# Altium footprint library PCB - CONNECTOR - AMPHENOL - AMPHENOL 031-6590.PcbLib: 1 footprints
Each footprint in its own frame and in the unit in brackets; x right, y up, seen from the top. Pads: shape width x height; smd on the part's side, far side on the other; paste and mask are expansions set on the pad; w line width, h text height; cw(c..) or ccw(c..) is an arc to the next point about the centre after c.
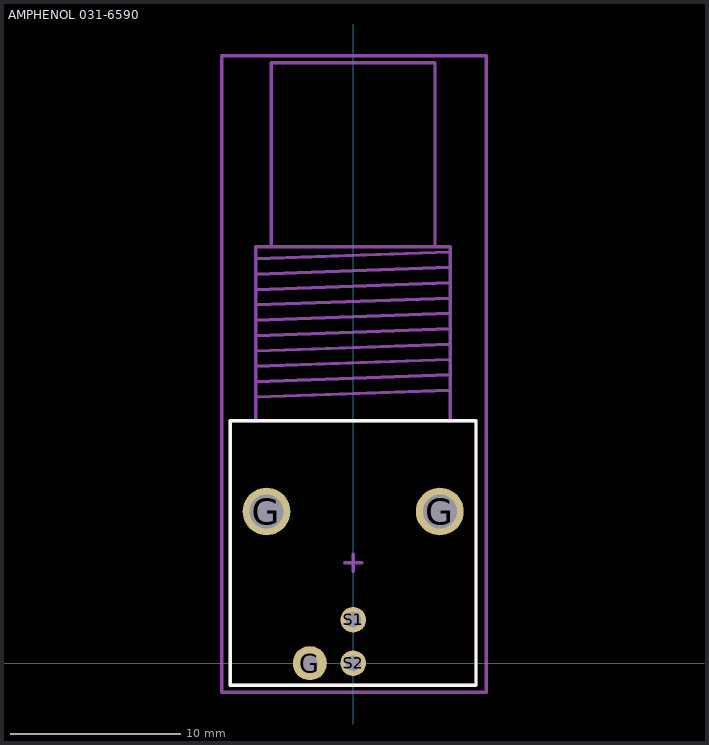
[diagram p0: the footprint, top view; thin cyan lines are the x and y axes]

## AMPHENOL 031-6590 [mm] "BNC Right Angle PCB Jack Through Hole Bulkhead Rear Mount 50 Ohm"
height 15.9
pads (5):
  round 2.8 hole 2 paste-2539.97: G(-5.08,8.89) G(5.08,8.89)
  round 2 hole 0.9 paste-2539.97: G(-2.54,0)
  round 1.5 hole 0.9 paste-2539.97: S1(0,2.54) S2(0,0)
Top Overlay:
  lines w0.2: -7.2,-1.3 7.2,-1.3 7.2,14.2 -7.2,14.2 -7.2,-1.3
Top Component Center:
  lines w0.2: -0.5,5.88 0.5,5.88 ; 0,5.38 0,6.38
  text "Top" at 1.7,-0.5 h1.5
  text "Bot" at 1.7,1.79 h1.5
Top Component Outline:
  lines w0.2: -5.7,14.2 -5.7,24.4 5.7,24.4 5.7,14.2 ; -5.7,15.6 5.7,16 ; -5.7,16.5 5.7,16.9 ; -5.7,17.4 5.7,17.8 ; -5.7,18.3 5.7,18.7 ; -5.7,19.2 5.7,19.6 ; -5.7,20.1 5.7,20.5 ; -5.7,21 5.7,21.4 ; -5.7,21.9 5.7,22.3 ; -5.7,22.8 5.7,23.2 ; -5.7,23.7 5.7,24.1 ; -4.8,24.4 -4.8,35.2 4.8,35.2 4.8,24.4 ; -7.2,-1.3 7.2,-1.3 7.2,14.2 -7.2,14.2 -7.2,-1.3
Top Courtyard (Mech15):
  lines w0.2: -7.7,-1.7 7.8,-1.7 7.8,35.6 -7.7,35.6 -7.7,-1.7
3D body "Amphenol 31-6590.step": height 32.54, standoff -4.09, extent -8.212,-1.275 8.212,35.235